# EAGLE library part YMC00144AAAFDGL (library ohranyator)
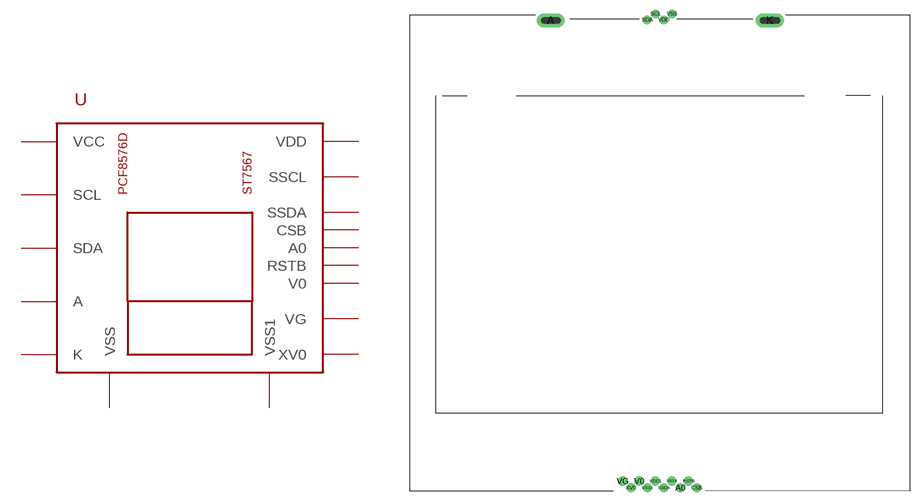
[diagram p3: symbol with the pads of YDD00144AAFD; footprint YDD00144AAFD]

Designator prefix -

## YMC00144AAAFDGL  [YDD00144AAFD]
A  A
A0  A0
CSB  CSB
K  K
RSTB  RSTB
SCL  SCL
SDA  SDA
SSCLK  SSCL
SSDA  SSDA
V0  V0
VDD  VCC
VDD1  VDD
VG  VG
VSS  VSS
VSS1  VSS1
XV0  XV0

## Footprint YDD00144AAFD (pad centres in mm)
drill 1.2 pad 2.184 long: A 21.8,72.61; K 55.6,72.6
drill 0.9 round: A0 41.783,0.445; CSB 44.323,0.445; RSTB 43.053,1.465; SSCLK 40.513,1.465; SSDA 39.243,0.445; V0 35.433,1.465; VDD1 37.973,1.465; VG 32.893,1.465; VSS1 36.703,0.445; XV0 34.163,0.445
drill 0.813 round: SCL 37.965,73.575; SDA 36.695,72.655; VDD 39.235,72.655; VSS 40.505,73.575